# Altium footprint library PcbLib1.PcbLib: 5 footprints
Each footprint in its own frame and in the unit in brackets; x right, y up, seen from the top. Pads: shape width x height; smd on the part's side, far side on the other; paste and mask are expansions set on the pad; w line width, h text height; cw(c..) or ccw(c..) is an arc to the next point about the centre after c.
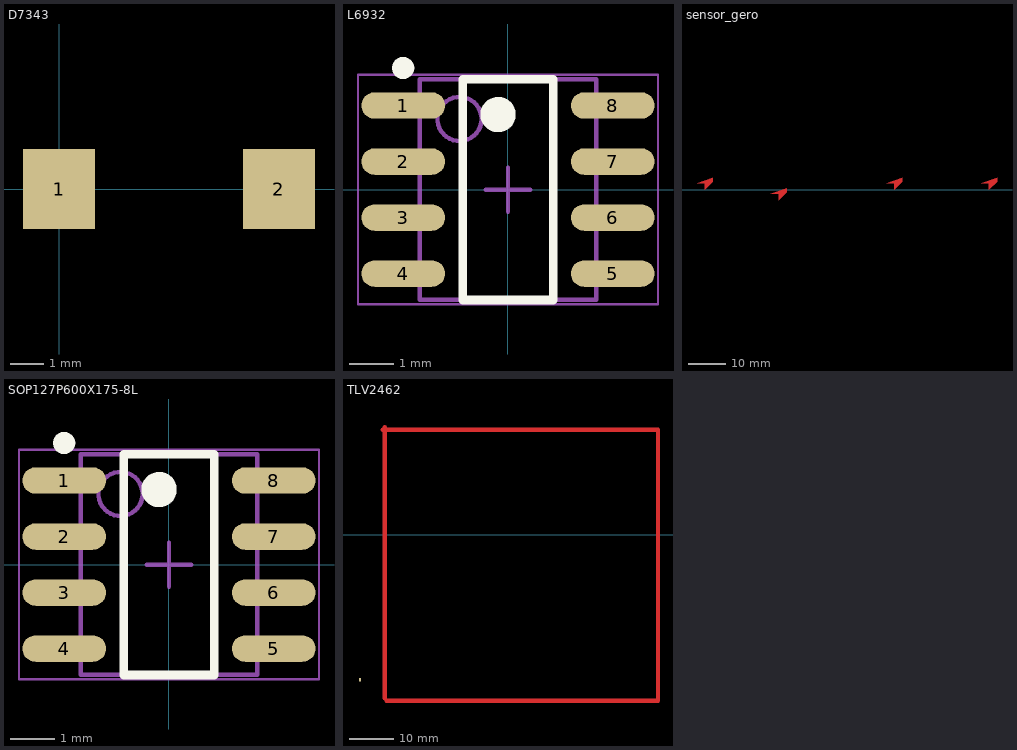
[diagram p0: the footprints below, top view; thin cyan lines are the x and y axes]

## D7343 [mm]
pads (2):
  rect 2.16x2.41 smd: 1(0,0) 2(6.61,0)
Top Layer:
  text "String" at 4.699,9.144 h1.52
  text "String" at 4.826,9.398 h1.52
  text "String" at 4.826,9.398 h1.52
  text "+" at -0.635,1.27 h1.52

## L6932 [mm] "SOP, 8-Leads, Body 4.90x3.90mm, Pitch 1.27mm, IPC High Density"
height 1.75
pads (8):
  oval 1.9x0.6 smd: 1(-2.375,1.905) 2(-2.375,0.635) 3(-2.375,-0.635) 4(-2.375,-1.905) 5(2.375,-1.905) 6(2.375,-0.635) 7(2.375,0.635) 8(2.375,1.905)
Top Overlay:
  circle w0.25: c-2.375,2.755 r0.125
  circle w0.4: c-0.225,1.7 r0.2
  lines w0.2: -1.025,-2.5 -1.025,2.5 1.025,2.5 1.025,-2.5 -1.025,-2.5
Mechanical 13:
  circle w0.1: c-1.1,1.6 r0.5
  lines w0.1: -2,-2.5 -2,2.5 2,2.5 2,-2.5 -2,-2.5
Mechanical 15:
  lines w0.05: -3.4,-2.6 -3.4,2.6 3.4,2.6 3.4,-2.6 -3.4,-2.6
  lines w0.1: -0.5,0 0.5,0 ; 0,-0.5 0,0.5
3D body: height 1.75, standoff 0.1, extent -2,-2.5 2,2.5

## sensor_gero [mm]
Top Layer:
  region: 20.955,1.778 22.987,1.778 22.987,0 25.146,2.159 25.146,3.302
  region: 40.767,-1.079 42.799,-1.079 42.799,-2.857 44.958,-0.699 44.958,0.445
  region: 71.755,1.778 73.787,1.778 73.787,0 75.946,2.159 75.946,3.302
  region: 97.155,1.778 99.187,1.778 99.187,0 101.346,2.159 101.346,3.302

## SOP127P600X175-8L [mm] "SOP, 8-Leads, Body 4.90x3.90mm, Pitch 1.27mm, IPC High Density"
height 1.75
pads (8):
  oval 1.9x0.6 smd: 1(-2.375,1.905) 2(-2.375,0.635) 3(-2.375,-0.635) 4(-2.375,-1.905) 5(2.375,-1.905) 6(2.375,-0.635) 7(2.375,0.635) 8(2.375,1.905)
Top Overlay:
  circle w0.25: c-2.375,2.755 r0.125
  circle w0.4: c-0.225,1.7 r0.2
  lines w0.2: -1.025,-2.5 -1.025,2.5 1.025,2.5 1.025,-2.5 -1.025,-2.5
Mechanical 13:
  circle w0.1: c-1.1,1.6 r0.5
  lines w0.1: -2,-2.5 -2,2.5 2,2.5 2,-2.5 -2,-2.5
Mechanical 15:
  lines w0.05: -3.4,-2.6 -3.4,2.6 3.4,2.6 3.4,-2.6 -3.4,-2.6
  lines w0.1: -0.5,0 0.5,0 ; 0,-0.5 0,0.5
3D body: height 1.75, standoff 0.25, extent -2,-2.5 2,2.5

## TLV2462 [mm]
pads (1):
  rect 0.41x0.835 smd: 1(-243.967,-32.512)
Top Layer:
  lines w1: -238.887,23.495 -177.165,23.495 -177.165,-37.211 -237.998,-37.211 ; -238.379,-36.703 -238.379,24.003